# EAGLE library part X-PORT (library X-Port)
LAN <-> RS232
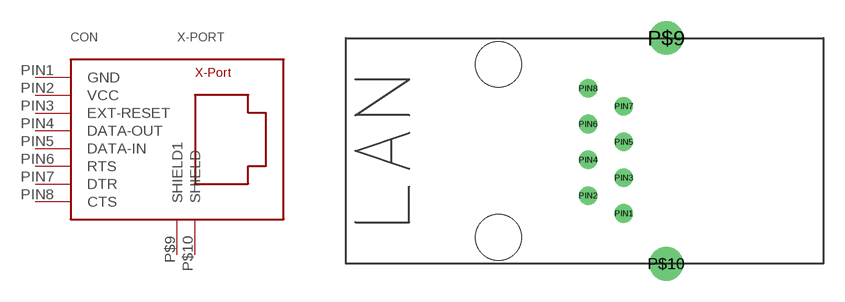
[diagram p0: symbol with the pads of X-PORT; footprint X-PORT]

Designator prefix CON

## X-PORT  [X-PORT]
P$9  SHIELD1
P$10  SHIELD
PIN1  GND
PIN2  VCC
PIN3  EXT-RESET
PIN4  DATA-OUT
PIN5  DATA-IN
PIN6  RTS
PIN7  DTR
PIN8  CTS

## Footprint X-PORT (pad centres in mm)
drill 1.6 round: P$9 4.28,8.025; P$10 4.28,-8.025
drill 0.813 round: PIN1 1.27,-4.445; PIN2 -1.27,-3.175; PIN3 1.27,-1.905; PIN4 -1.27,-0.635; PIN5 1.27,0.635; PIN6 -1.27,1.905; PIN7 1.27,3.175; PIN8 -1.27,4.445
hole 3.25 at -7.62,-6.15
hole 3.25 at -7.62,6.15